# Altium footprint library SSST.PcbLib: 23 footprints (part 2 of 2)
Each footprint in its own frame and in the unit in brackets; x right, y up, seen from the top. Pads: shape width x height; smd on the part's side, far side on the other; paste and mask are expansions set on the pad; w line width, h text height; cw(c..) or ccw(c..) is an arc to the next point about the centre after c.
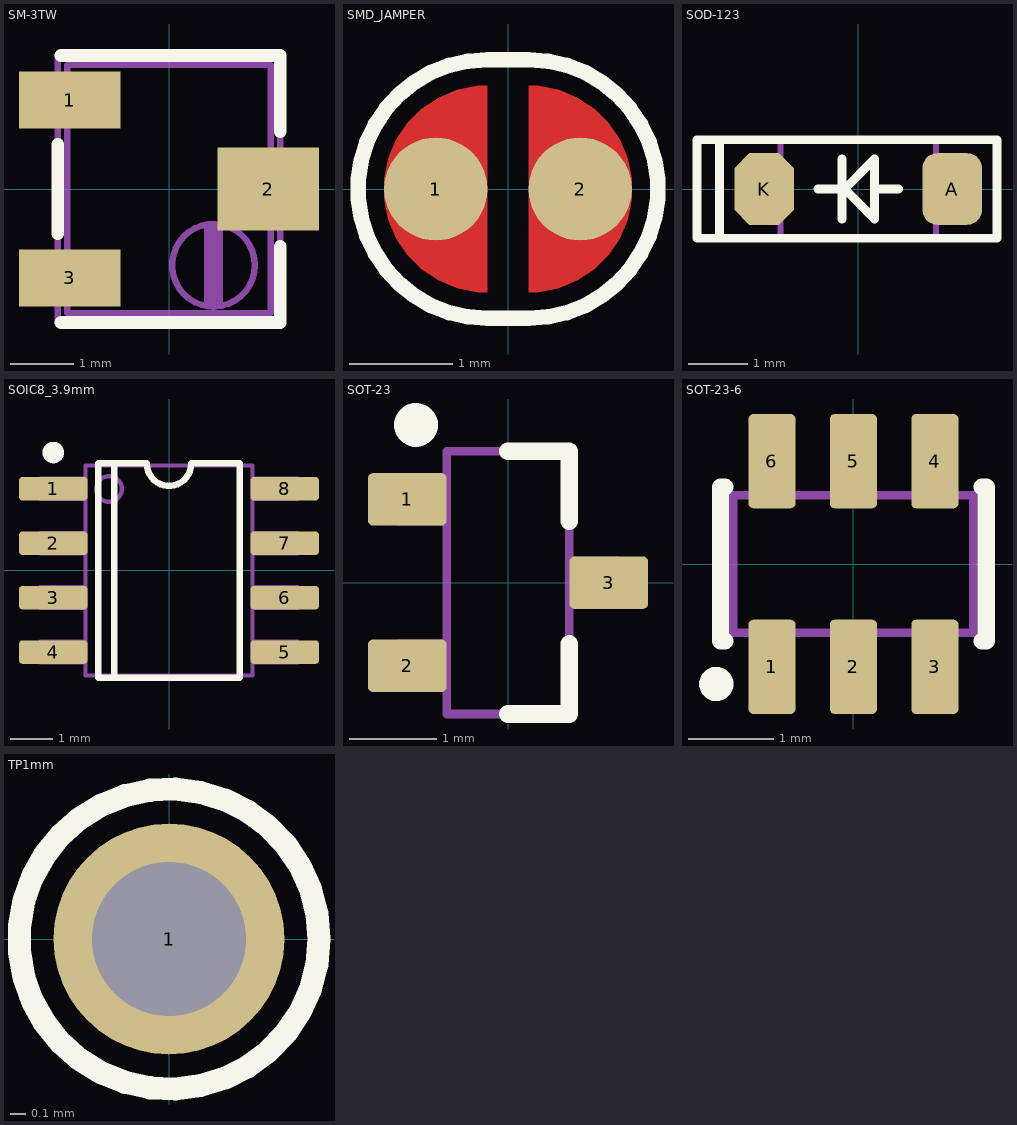
[diagram p1: the footprints below, top view; thin cyan lines are the x and y axes]

## SM-3TW [mm] "SURFACE MOUNT CERMET TRIMMER Top adjustmet"
height 4.2
pads (3):
  rect 1.6x0.9 smd: 1(-1.56,1.4) 3(-1.56,-1.4)
  rect 1.6x1.3 smd: 2(1.56,0)
Top Overlay:
  lines w0.2: -1.75,-0.7 -1.75,0.7 ; -1.7,-2.1 1.75,-2.1 1.75,-0.9 ; -1.7,2.1 1.75,2.1 1.75,0.9
Mechanical 5:
  lines w0.1: -1.75,-2.1 -1.75,2.1 1.75,2.1 1.75,-2.1 -1.75,-2.1
  text ".designator" at -0.4,1.75 h0.8
Mechanical 13:
  circle w0.1: c0.7,-1.2 r0.65
  lines w0.1: -1.6,-1.7 -1.75,-1.7 -1.75,-1.1 -1.6,-1.1 ; -1.6,1.1 -1.75,1.1 -1.75,1.7 -1.6,1.7 ; 1.6,-0.5 1.75,-0.5 1.75,0.5 1.6,0.5 ; -1.6,-1.95 1.6,-1.95 1.6,1.95 -1.6,1.95 -1.6,-1.95
  lines w0.3: 0.7,-1.75 0.7,-0.65
3D body: height 4.2, standoff 0, extent -1.6,-1.95 1.6,1.95

## SMD_JAMPER [mm]
pads (2):
  round 1 smd: 1(-0.7,0) 2(0.7,0)
Top Layer:
  region: -0.2,1 -0.2,-1 -0.298,-1 -0.492,-0.962 -0.674,-0.886 -0.837,-0.777 -0.977,-0.637 -1.086,-0.474 -1.162,-0.292 -1.2,-0.098 -1.2,0 -1.2,0.098 -1.162,0.292 -1.086,0.474 -0.977,0.637 -0.837,0.777 -0.674,0.886 -0.492,0.962 -0.298,1
  region: 0.2,1 0.2,-1 0.298,-1 0.492,-0.962 0.674,-0.886 0.837,-0.777 0.977,-0.637 1.086,-0.474 1.162,-0.292 1.2,-0.098 1.2,0 1.2,0.098 1.162,0.292 1.086,0.474 0.977,0.637 0.837,0.777 0.674,0.886 0.492,0.962 0.298,1
Top Overlay:
  lines w0.15: -0.2,-1.254 cw(c-0.2,0) -0.2,1.254 0.2,1.254 cw(c0.2,0) 0.2,-1.254 -0.2,-1.254

## SOD-123 [mm]
height 0.8
pads (2):
  rrect50% 1x1.2 smd: A(1.575,0)
  oct 1x1.2 smd: K(-1.575,0)
Top Overlay:
  lines w0.15: -0.675,0 -0.25,0 ; -0.275,-0.5 -0.275,0.5 ; 0.262,-0.488 -0.225,0 0.262,0.488 ; 0.275,-0.5 0.275,0.5 ; 0.275,0 0.675,0 ; -2.325,-0.825 -2.7,-0.825 -2.7,0.825 -2.325,0.825 ; -2.325,-0.825 -2.325,0.825 ; -2.325,-0.825 2.325,-0.825 2.325,0.825 -2.325,0.825
Mechanical 13:
  lines w0.1: -1.3,-0.45 -1.75,-0.45 -1.75,0.45 -1.3,0.45 ; 1.3,-0.45 1.75,-0.45 1.75,0.45 1.3,0.45 ; -1.3,-0.8 -1.3,0.8 1.3,0.8 1.3,-0.8 -1.3,-0.8
3D body "CDBW.step": height 1.35, standoff 0, extent -1.956,-0.902 1.956,0.902

## SOIC8_3.9mm [mm] "3.9mm Wide,1.27mm Pitch"
height 1.75
pads (8):
  rrect30% 1.6x0.55 smd: 1(-2.7,1.905) 2(-2.7,0.635) 3(-2.7,-0.635) 4(-2.7,-1.905) 5(2.7,-1.905) 6(2.7,-0.635) 7(2.7,0.635) 8(2.7,1.905)
Top Overlay:
  circle w0.25: c-2.7,2.75 r0.125
  lines w0.15: -1.275,-2.5 -1.275,2.5 ; -0.517,2.487 ccw(c0,2.487) 0.517,2.487 ; -0.517,2.5 -1.65,2.5 -1.65,-2.5 1.65,-2.5 1.65,2.5 0.517,2.5
Mechanical 5:
  circle w0.1: c-1.4,1.9 r0.3
  lines w0.1: -1.95,-2.145 -3,-2.145 -3,-1.665 -1.95,-1.665 ; -1.95,-0.875 -3,-0.875 -3,-0.395 -1.95,-0.395 ; -1.95,0.395 -3,0.395 -3,0.875 -1.95,0.875 ; -1.95,1.665 -3,1.665 -3,2.145 -1.95,2.145 ; 1.95,-2.145 3,-2.145 3,-1.665 1.95,-1.665 ; 1.95,-0.875 3,-0.875 3,-0.395 1.95,-0.395 ; 1.95,0.395 3,0.395 3,0.875 1.95,0.875 ; 1.95,1.665 3,1.665 3,2.145 1.95,2.145 ; -1.95,-2.45 1.95,-2.45 1.95,2.45 -1.95,2.45 -1.95,-2.45
  text ".designator" at 0.5,-2.2 h1
Mechanical 13:
  lines w0.1: -1.95,-2.45 1.95,-2.45 1.95,2.45 -1.95,2.45 -1.95,-2.45
3D body "User Library-SOIC8_JEDEC_MS-012AA.STEP": height 1.75, standoff -0.01, extent -3.099,-2.5 3.1,2.5

## SOT-23 [mm] "SOT23, 3-Leads, Body 2.9x1.3mm, Pitch 0.95mm, Lead Span 2.4mm"
height 1.12
pads (3):
  rrect20% 0.9x0.6 smd: 1(-1.15,0.95) 2(-1.15,-0.95) 3(1.15,0)
Top Overlay:
  circle w0.25: c-1.05,1.8 r0.125
  lines w0.2: 0,-1.5 0.7,-1.5 0.7,-0.7 ; 0,1.5 0.7,1.5 0.7,0.7
Mechanical 5:
  rectangle: -1.25,0.7 -0.7,1.2
  lines w0.1: -0.7,-1.2 -1.25,-1.2 -1.25,-0.7 -0.7,-0.7 ; -0.7,0.7 -1.25,0.7 -1.25,1.2 -0.7,1.2 ; 0.7,-0.25 1.25,-0.25 1.25,0.25 0.7,0.25 ; -0.7,-1.5 -0.7,1.5 0.7,1.5 0.7,-1.5 -0.7,-1.5
  text ".designator" at -0.26,1.33 h0.6
Mechanical 13:
  lines w0.1: -0.7,-1.2 -1.25,-1.2 -1.25,-0.7 -0.7,-0.7 ; -0.7,0.7 -1.25,0.7 -1.25,1.2 -0.7,1.2 ; 0.7,-0.25 1.25,-0.25 1.25,0.25 0.7,0.25 ; -0.7,-1.5 0.7,-1.5 0.7,1.5 -0.7,1.5 -0.7,-1.5
3D body "User Library-SOT95P280X135-3M[SOT23_TO-236AA].STEP": height 1.3, standoff 0, extent -1.5,-1.5 1.5,1.5

## SOT-23-6 [mm] "SOT-23/SC-74A; 6 Leads; Body 3.1 x 3.1 mm"
height 1.45
pads (6):
  rrect20% 0.55x1.1 smd: 1(-0.95,-1.2) 2(0,-1.2) 3(0.95,-1.2) 4(0.95,1.2) 5(0,1.2) 6(-0.95,1.2)
Top Overlay:
  circle w0.2: c-1.6,-1.4 r0.1
  lines w0.2: -1.5,-0.9 -1.55,-0.9 -1.55,0.9 -1.5,0.9 ; 1.5,-0.9 1.55,-0.9 1.55,0.9 1.5,0.9
Mechanical 5:
  rectangle: -1.15,-1.4 -0.75,-0.8
  lines w0.1: -1.15,-0.8 -1.15,-1.4 -0.75,-1.4 -0.75,-0.8 ; -1.15,0.8 -1.15,1.4 -0.75,1.4 -0.75,0.8 ; -0.2,-0.8 -0.2,-1.4 0.2,-1.4 0.2,-0.8 ; -0.2,0.8 -0.2,1.4 0.2,1.4 0.2,0.8 ; 0.75,-0.8 0.75,-1.4 1.15,-1.4 1.15,-0.8 ; 0.75,0.8 0.75,1.4 1.15,1.4 1.15,0.8 ; -1.4,-0.8 1.4,-0.8 1.4,0.8 -1.4,0.8 -1.4,-0.8
  text ".designator" at -1.23,-0.31 h0.55
Mechanical 13:
  lines w0.1: -1.15,-0.8 -1.15,-1.4 -0.75,-1.4 -0.75,-0.8 ; -1.15,0.8 -1.15,1.4 -0.75,1.4 -0.75,0.8 ; -0.2,-0.8 -0.2,-1.4 0.2,-1.4 0.2,-0.8 ; -0.2,0.8 -0.2,1.4 0.2,1.4 0.2,0.8 ; 0.75,-0.8 0.75,-1.4 1.15,-1.4 1.15,-0.8 ; 0.75,0.8 0.75,1.4 1.15,1.4 1.15,0.8 ; -1.4,-0.8 1.4,-0.8 1.4,0.8 -1.4,0.8 -1.4,-0.8
3D body "User Library-SOT23-6-2.STEP": height 1.45, standoff 0, extent -1.45,-1.4 1.45,1.4

## TP1mm [mm] "TEST POINT 径1mm"
pads (1):
  round 1.5 hole 1: 1(0,0)
Top Overlay:
  circle w0.15: c0,0 r0.975
Bottom Overlay:
  circle w0.15: c0,0 r0.975